# EAGLE library part W25Q80BV (library XMC4500_Relax-V1)
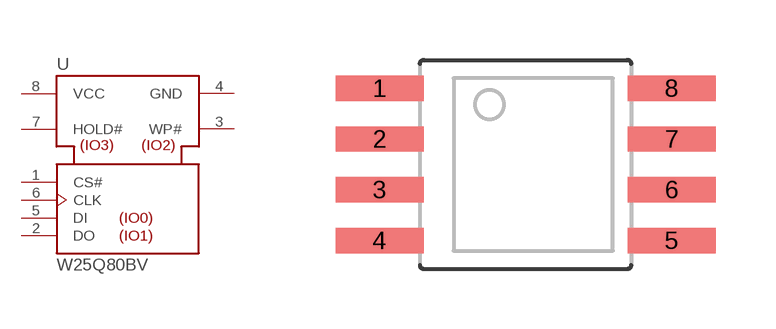
[diagram p1: symbol with the pads of SO08W; footprint SO08W]

Designator prefix U

## W25Q80BVSSIG  [SO08W]
1  CS#  in
2  DO
3  WP#
4  GND  pwr
5  DI
6  CLK
7  HOLD#
8  VCC  pwr

## Footprint SO08W (pad centres in mm)
SMALL OUTLINE INTEGRATED CIRCUIT 8-Lead, 0.208" Body, Plastic Small Outline Package (EIAJ)
smd 2.2 x 0.635: 1 -3.651,1.905; 2 -3.651,0.635; 3 -3.651,-0.635; 4 -3.651,-1.905; 5 3.651,-1.905; 6 3.651,-0.635; 7 3.651,0.635; 8 3.651,1.905